# Altium footprint library 5033981892.PcbLib: 1 footprints
Each footprint in its own frame and in the unit in brackets; x right, y up, seen from the top. Pads: shape width x height; smd on the part's side, far side on the other; paste and mask are expansions set on the pad; w line width, h text height; cw(c..) or ccw(c..) is an arc to the next point about the centre after c.
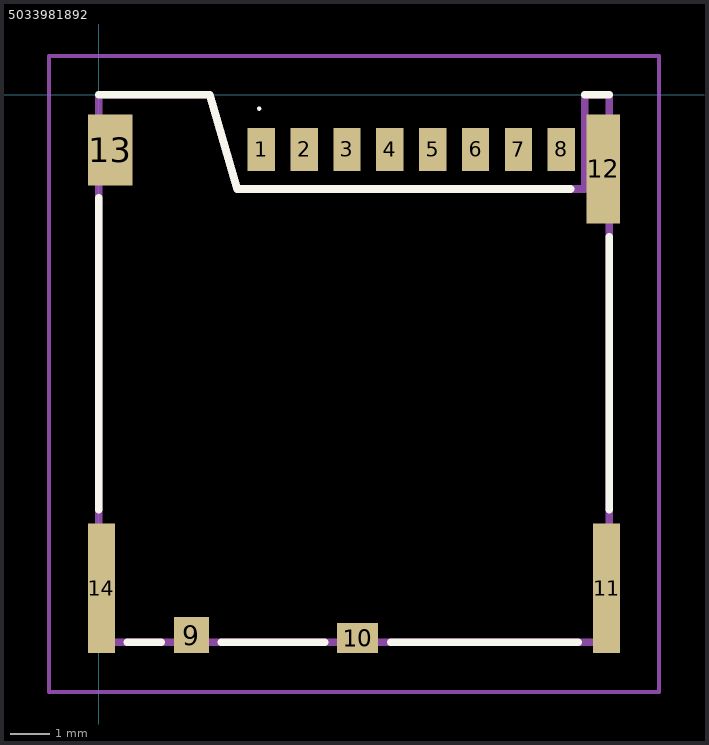
[diagram p0: the footprint, top view; thin cyan lines are the x and y axes]

## 5033981892 [mm]
pads (14):
  rect 0.7x1.1 smd: 1(4.17,-1.4) 2(5.27,-1.4) 3(6.37,-1.4) 4(7.47,-1.4) 5(8.57,-1.4) 6(9.67,-1.4) 7(10.77,-1.4) 8(11.87,-1.4)
  rect 0.9x0.93 smd: 9(2.38,-13.865)
  rect 1.05x0.78 smd: 10(6.645,-13.94)
  rect 0.7x3.33 smd: 11(13.03,-12.665) 14(0.07,-12.665)
  rect 0.86x2.8 smd: 12(12.95,-1.9)
  rect 1.14x1.83 smd: 13(0.29,-1.415)
Top Overlay:
  lines w0.055: 4.089,-0.356 4.089,-0.356 ; 4.089,-0.356 ccw(c4.116,-0.356) 4.143,-0.356 ; 4.089,-0.356 cw(c4.116,-0.356) 4.143,-0.356 ; 4.143,-0.356 4.143,-0.356
  lines w0.2: 0,-10.648 0,-2.65 ; 0,0 2.849,0 3.554,-2.42 12.109,-2.42 ; 0.74,-14.05 1.6,-14.05 ; 3.15,-14.05 5.8,-14.05 ; 7.5,-14.05 12.3,-14.05 ; 12.474,0 13.1,0 ; 13.1,-10.65 13.1,-3.65
Mechanical 15:
  lines w0.2: 0,-14.05 0,0 2.849,0 3.554,-2.42 12.474,-2.42 12.474,0 13.1,0 13.1,-14.05 0,-14.05
Mechanical 20:
  lines w0.1: -1.28,-15.33 14.38,-15.33 14.38,1 -1.28,1 -1.28,-15.33